# Altium footprint library FC-135_32_7680KA-A5.PcbLib: 1 footprints
Each footprint in its own frame and in the unit in brackets; x right, y up, seen from the top. Pads: shape width x height; smd on the part's side, far side on the other; paste and mask are expansions set on the pad; w line width, h text height; cw(c..) or ccw(c..) is an arc to the next point about the centre after c.
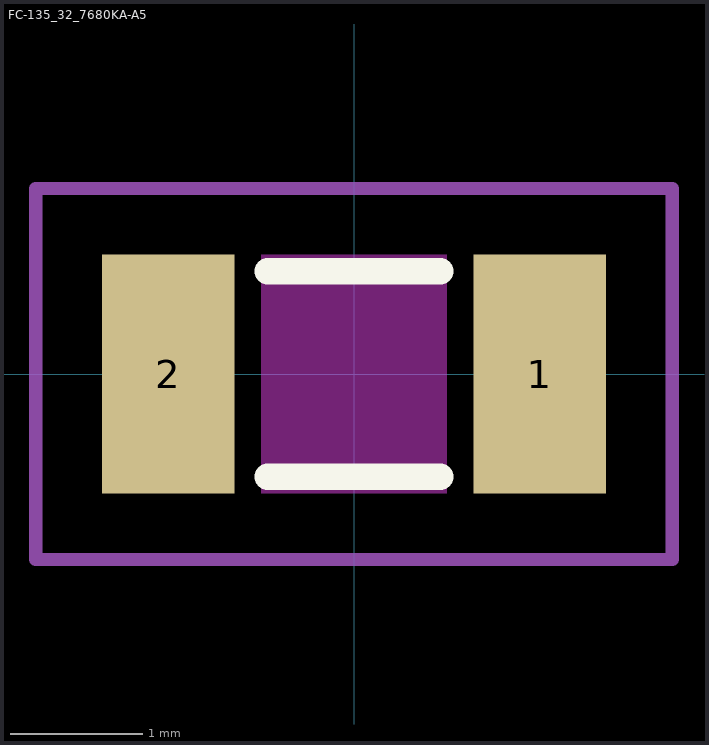
[diagram p0: the footprint, top view; thin cyan lines are the x and y axes]

## FC-135_32_7680KA-A5 [mm] "ABS07 3.2x1.5mm"
height 2
pads (2):
  rect 1x1.8 smd: 1(1.4,0) 2(-1.4,0)
Top Layer keep-out:
  rectangle: -0.7,-0.9 0.7,0.9
Top Overlay:
  lines w0.2: -0.65,-0.775 0.65,-0.775 ; -0.65,0.775 0.65,0.775
Top Courtyard:
  lines w0.1: -2.4,-1.4 -1.9,-1.4 2.4,-1.4 2.4,1.4 -2.4,1.4 -2.4,-1.4
3D body "User Library-ABS07.STEP": height 0.91, standoff 0, extent -1.61,-0.76 1.61,0.76